# Altium footprint library HR911105A.PcbLib: 1 footprints
Each footprint in its own frame and in the unit in brackets; x right, y up, seen from the top. Pads: shape width x height; smd on the part's side, far side on the other; paste and mask are expansions set on the pad; w line width, h text height; cw(c..) or ccw(c..) is an arc to the next point about the centre after c.
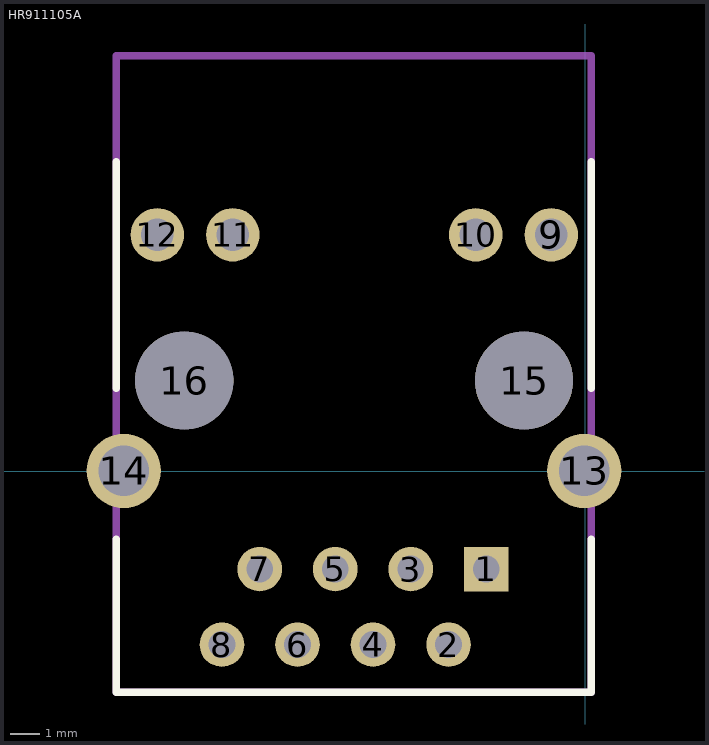
[diagram p0: the footprint, top view; thin cyan lines are the x and y axes]

## HR911105A [mm]
pads (16):
  rect 1.5x1.5 hole 0.9: 1(-3.32,-3.29)
  round 1.5 hole 0.9: 2(-4.59,-5.83) 3(-5.86,-3.29) 4(-7.13,-5.83) 5(-8.4,-3.29) 6(-9.67,-5.83) 7(-10.94,-3.29) 8(-12.21,-5.83)
  round 1.8 hole 1.1 paste+0: 9(-1.135,7.95) 10(-3.675,7.95) 11(-11.845,7.95) 12(-14.385,7.95)
  round 2.5 hole 1.7: 13(-0.025,0.01) 14(-15.515,0.01)
  round 3.3 hole 3.3 unplated: 15(-2.05,3.05) 16(-13.48,3.05)
Top Overlay:
  lines w0.254: -15.768,-2.29 -15.765,-2.293 -15.765,-7.43 0.205,-7.43 0.205,-2.29 ; -15.765,2.79 -15.765,10.41 ; 0.205,2.79 0.205,10.41
TopAssy:
  lines w0.254: -15.765,-7.43 -15.765,13.97 0.205,13.97 0.205,-7.43 -15.765,-7.43
3D body "User Library-HR911105A.step": height 14, standoff -2.5, extent -15.72,-7.43 0.16,13.97